# Altium footprint library PcbLib1.PcbLib: 3 footprints
Each footprint in its own frame and in the unit in brackets; x right, y up, seen from the top. Pads: shape width x height; smd on the part's side, far side on the other; paste and mask are expansions set on the pad; w line width, h text height; cw(c..) or ccw(c..) is an arc to the next point about the centre after c.
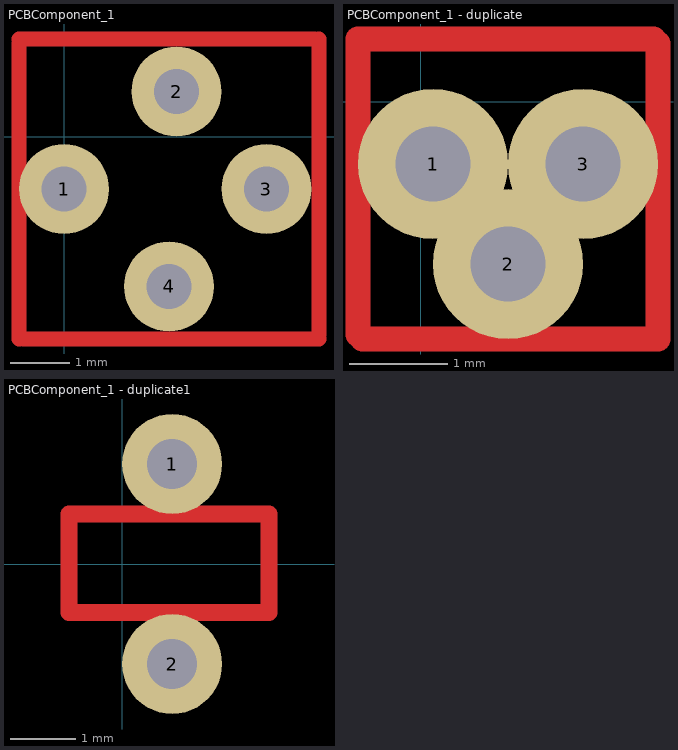
[diagram p0: the footprints below, top view; thin cyan lines are the x and y axes]

## PCBComponent_1 [mil]
pads (4):
  round 60 hole 30: 1(0,-35) 2(75,30) 3(135,-35) 4(70,-100)
Top Layer:
  lines w10: -30,-135 -30,61.85 ; -30,65 166.85,65 ; -26.85,-135 170,-135 ; 170,-131.85 170,65

## PCBComponent_1 - duplicate [mil]
pads (3):
  round 60 hole 30: 1(5,-25) 2(35,-65) 3(65,-25)
Top Layer:
  lines w10: -25,-93.11 -25,25 93.11,25 ; -23.11,-95 95,-95 95,23.11

## PCBComponent_1 - duplicate1 [mil]
pads (2):
  round 60 hole 30: 1(30,60) 2(30,-60)
Top Layer:
  lines w10: -31.89,-29.06 -31.89,30 ; -30,-29.06 88.11,-29.06 88.11,30 -30,30